# Altium schematic symbol library 2020-11-26_03-36-27.SchLib: 2 symbols
Pins are listed as number, name and electrical type; pins without a type are passive.

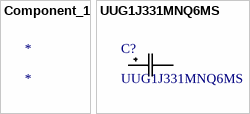
[diagram p0: symbols Component_1 to UUG1J331MNQ6MS]

## Component_1
designator *

## UUG1J331MNQ6MS
designator C?
No Description Available; Vendor: Nichicon; Built_By: EMA_Cory; SourceLibrary: Nichicon_2019-09-13; Type: DEV; Manufacturer_Part_Number: UUG1J331MNQ6MS; Copyright: Copyright (C) 2018 Accelerated Designs. All rights reserved; RefDes: RefDes
footprint CAP_UUG_12P5X21_NCH
pins: 1, 2